# EAGLE library part SPI-FLASH (library bmowdisk)
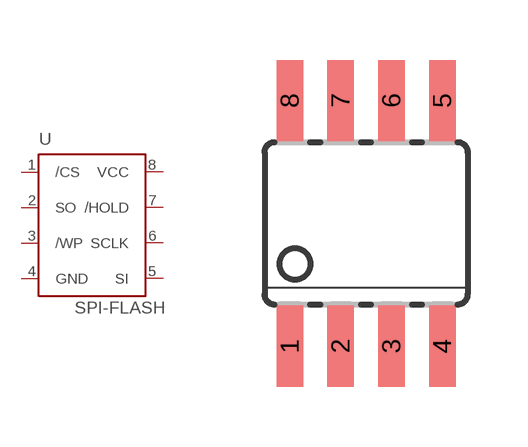
[diagram p7: symbol with the pads of SOIC08; footprint SOIC08]

Designator prefix -

## SPI-FLASH  [SOIC08]
1  /CS  in
2  SO  in
3  /WP  pas
4  GND  pwr
5  SI  out
6  SCLK  out
7  /HOLD  out
8  VCC  pwr

## Footprint SOIC08 (pad centres in mm)
smd 0.66 x 2.032: 1 -1.905,-3.073; 2 -0.635,-3.073; 3 0.635,-3.073; 4 1.905,-3.073; 5 1.905,3.073; 6 0.635,3.073; 7 -0.635,3.073; 8 -1.905,3.073